# Altium schematic symbol library ST0147-00-011-A.SchLib: 1 symbol
Pins are listed as number, name and electrical type; pins without a type are passive.

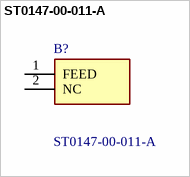
[diagram p0: symbol ST0147-00-011-A]

## ST0147-00-011-A
designator B?
RF Antenna Chip PCB Surface Mount Single Band 2W 50 Ohm; Manufacturer_Name: Amphenol RF; Geometry.Height: 0.55mm; Mouser Part Number: *; Mouser Price/Stock: *; Manufacturer_Part_Number: ST0147-00-011-A; Datasheet Link: https://s3-us-west-2.amazonaws.com/catsy.582/ST0147-00-011-A+BT+WiFi+2.4G+Datasheet-RB00.pdf
footprint ANTC3016X55N
pins: 1 FEED, 2 NC